# Altium footprint library 2x2-pin vertical (39-28-1043).PcbLib: 1 footprints
Each footprint in its own frame and in the unit in brackets; x right, y up, seen from the top. Pads: shape width x height; smd on the part's side, far side on the other; paste and mask are expansions set on the pad; w line width, h text height; cw(c..) or ccw(c..) is an arc to the next point about the centre after c.
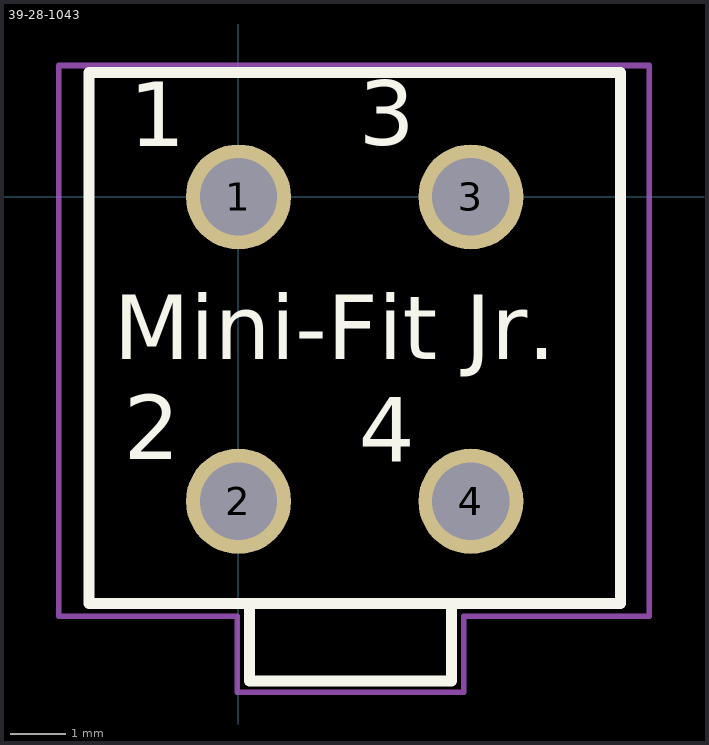
[diagram p0: the footprint, top view; thin cyan lines are the x and y axes]

## 39-28-1043 [mm] "MOLEX - 39-28-1043 - HEADER, MINI-FIT, 4WAY"
pads (4):
  round 1.9 hole 1.4: 1(0,0) 2(0,-5.5) 3(4.2,0) 4(4.2,-5.5)
Top Overlay:
  lines w0.2: 1,-7.35 0.2,-7.35 0.2,-8.75 3.85,-8.75 3.85,-7.375 ; -2.7,-7.35 -2.7,2.25 6.9,2.25 6.9,-7.35 -2.7,-7.35
  text "Mini-Fit Jr." at -2.25,-3.325 h2
  text "1" at -1.975,0.525 h2
  text "3" at 2.175,0.55 h2
  text "2" at -2.075,-5.125 h2
  text "4" at 2.175,-5.175 h2
Mechanical 15:
  lines w0.1: -3.25,-7.575 -0.025,-7.575 -0.025,-8.95 4.075,-8.95 4.075,-7.575 7.425,-7.575 7.425,2.375 -3.25,2.375 -3.25,-7.575
3D body: height 12.8, standoff -3.5, extent -3.1,-8.75 7.3,2.25